# Altium footprint library SMA-SPE-SUPER_SMA_SWST.PcbLib: 1 footprints
Each footprint in its own frame and in the unit in brackets; x right, y up, seen from the top. Pads: shape width x height; smd on the part's side, far side on the other; paste and mask are expansions set on the pad; w line width, h text height; cw(c..) or ccw(c..) is an arc to the next point about the centre after c.
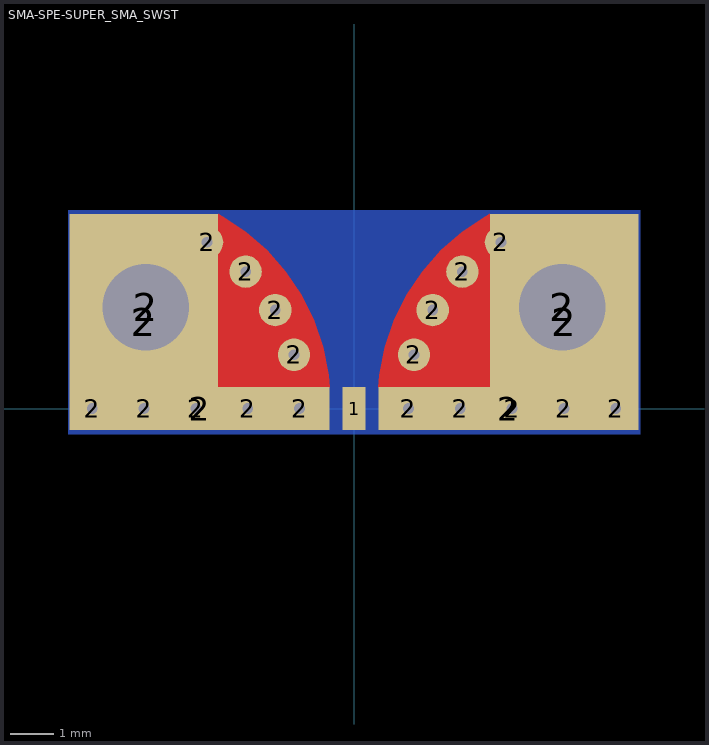
[diagram p0: the footprint, top view; thin cyan lines are the x and y axes]

## SMA-SPE-SUPER_SMA_SWST [mm]
pads (25):
  rect 0.53x1 smd paste-2: 1(0,0)
  round 0.75 hole 0.25: 2(-6.06,0) 2(-4.86,0) 2(-3.66,0) 2(-3.401,3.85) 2(-2.508,3.17) 2(-2.46,0) 2(-1.821,2.282) 2(-1.388,1.246) 2(-1.26,0) 2(1.26,0) 2(1.388,1.246) 2(1.821,2.282) 2(2.46,0) 2(2.508,3.17) 2(3.401,3.85) 2(3.66,0) 2(4.86,0) 2(6.06,0)
  rect 3.445x5 smd paste-2: 2(-4.865,2) 2(4.865,2)
  round 3 hole 2 paste-2: 2(-4.82,2.35) 2(4.82,2.35)
  rect 6x1 smd paste-2: 2(-3.565,0) 2(3.565,0)
Top Layer:
  region: -3.048,4.458 -2.503,4.094 -2.01,3.662 -1.578,3.169 -1.213,2.624 -0.924,2.037 -0.713,1.416 -0.585,0.773 -0.566,0.49 -0.567,0.49 -3.144,0.49 -3.146,0.49 -3.143,4.506
  region: 3.048,4.458 2.503,4.094 2.01,3.662 1.578,3.169 1.213,2.624 0.924,2.037 0.713,1.416 0.585,0.773 0.566,0.49 0.567,0.49 3.144,0.49 3.146,0.49 3.143,4.506
Bottom Layer:
  rectangle: -6.625,-0.603 6.633,4.6
Top Solder:
  region: -2.988,4.535 -2.434,4.164 -1.932,3.724 -1.493,3.223 -1.122,2.668 -0.827,2.07 -0.613,1.439 -0.483,0.785 -0.463,0.492 -0.464,0.492 -0.464,0.49 -3.131,0.49 -3.131,4.601 -3.128,4.604
  region: 2.988,4.535 2.434,4.164 1.932,3.724 1.493,3.223 1.122,2.668 0.827,2.07 0.613,1.439 0.483,0.785 0.463,0.492 0.464,0.492 0.464,0.49 3.131,0.49 3.131,4.601 3.128,4.604
Bottom Solder:
  rectangle: -6.629,-0.602 6.629,4.602
3D body: height 6.43, standoff -4.82, extent -6.4,-11.35 6.3,4.55